# Altium footprint library 4PIN_connecter.PcbLib: 1 footprints
Each footprint in its own frame and in the unit in brackets; x right, y up, seen from the top. Pads: shape width x height; smd on the part's side, far side on the other; paste and mask are expansions set on the pad; w line width, h text height; cw(c..) or ccw(c..) is an arc to the next point about the centre after c.
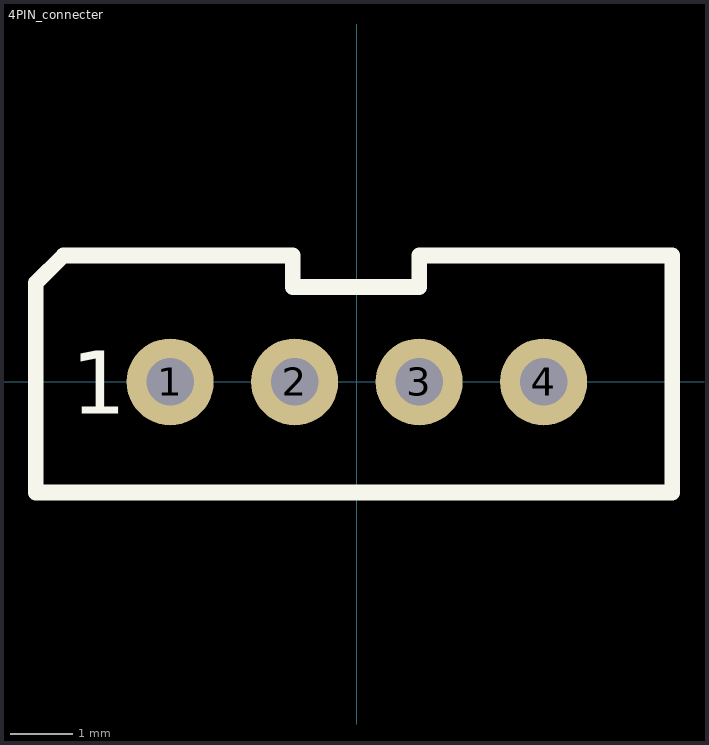
[diagram p0: the footprint, top view; thin cyan lines are the x and y axes]

## 4PIN_connecter [mil] "4PIN连接器"
pads (4):
  round 55 hole 30: 1(-118.11,0) 2(-39.37,0) 3(39.37,0) 4(118.11,0)
Top Overlay:
  lines w10: -203.11,-70 -203.11,62.52 -185.63,80 -40.63,80 -40.63,60 39.37,60 39.37,80 199.37,80 199.37,-70 -203.11,-70
  text "1" at -180.63,-20 h40